# Altium integrated library ST Video Non-VGA Video Controller.IntLib: 7 symbols
Pins are listed as number, name and electrical type; pins without a type are passive.

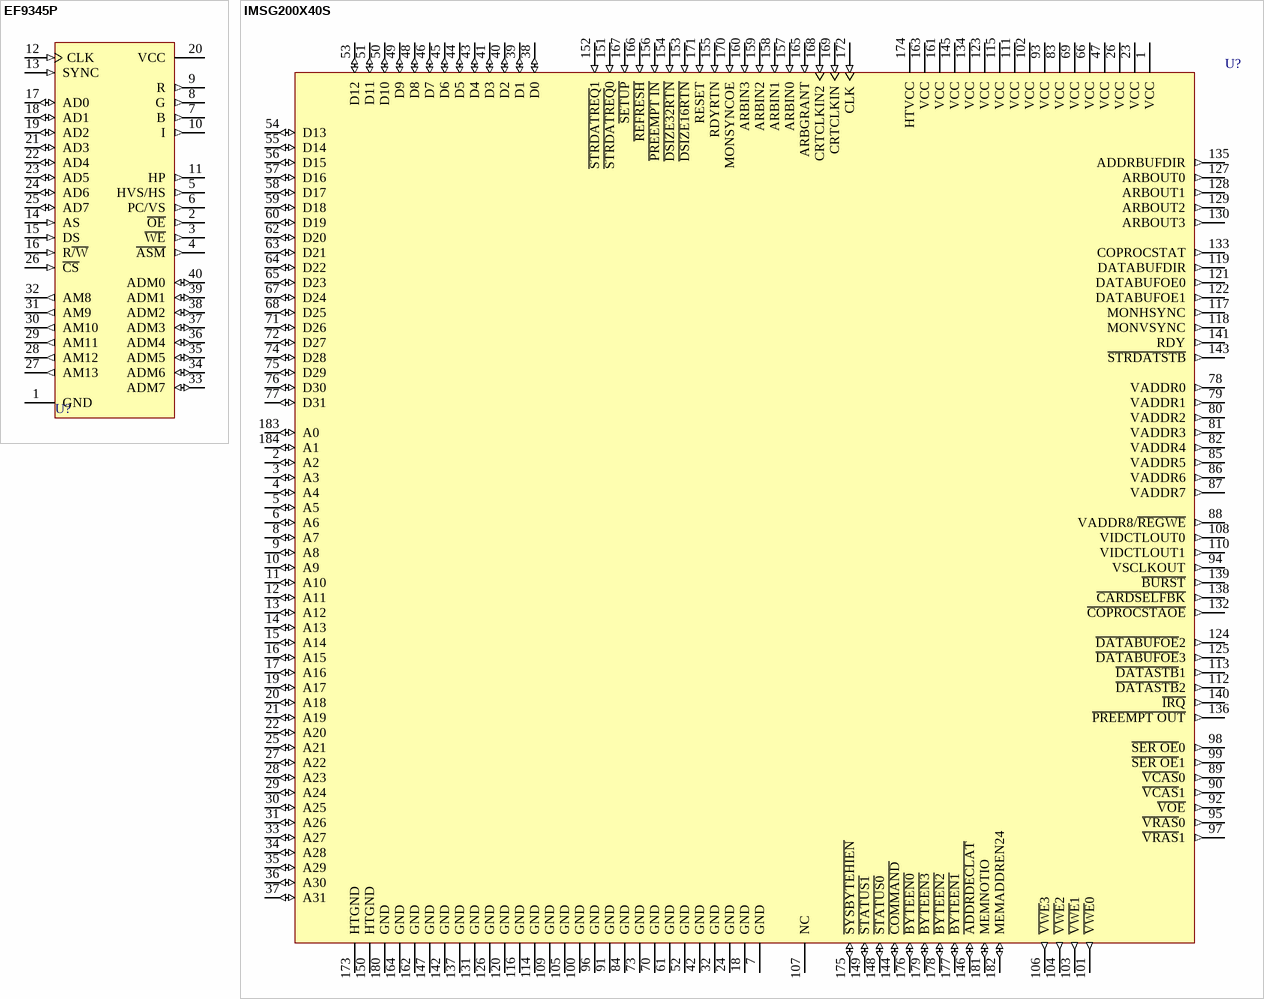
[diagram p0: symbols EF9345P to IMSG200X40S]

## EF9345P
designator U?
HMOS2 Single Chip Semi-Graphic Display Processor; Published: 24-Aug-2001; LatestRevisionDate: 6-Jun-2005; LatestRevisionNote: Stylized 3D Model Added.; DatasheetDocument: Mar-1995; PackageDocument: Jul-1999; PackageReference: PDIP40B; Publisher: Altium Limited; ComponentLink1Description: Manufacturer Link; ComponentLink1URL: http://www.st.com/
footprint PDIP40B (DIP; 40 Leads; Row Spacing 15.24 mm; Pitch 2.54 mm)
3D model PDIP40B (DIP; 40 Leads; Row Spacing 15.24 mm; Pitch 2.54 mm)
pins: 1 GND (power), 2 ~{OE} (out), 3 ~{WE} (out), 4 ~{ASM} (out), 5 HVS/HS (out), 6 PC/VS (out), 7 B (out), 8 G (out), 9 R (out), 10 I (out), 11 HP (out), 12 CLK (in), 13 SYNC (in), 14 AS (in), 15 DS (in), 16 R~{/W} (in), 17 AD0 (io), 18 AD1 (io), 19 AD2 (io), 20 VCC (power), 21 AD3 (io), 22 AD4 (io), 23 AD5 (io), 24 AD6 (io), 25 AD7 (io), 26 ~{CS} (in), 27 AM13 (out), 28 AM12 (out), 29 AM11 (out), 30 AM10 (out), 31 AM9 (out), 32 AM8 (out), 33 ADM7 (io), 34 ADM6 (io), 35 ADM5 (io), 36 ADM4 (io), 37 ADM3 (io), 38 ADM2 (io), 39 ADM1 (io), 40 ADM0 (io)

## IMSG200X40S
designator U?
XGA Display Controller; Published: 24-Aug-2001; LatestRevisionDate: 6-Jun-2005; LatestRevisionNote: Stylized 3D Model Added.; DatasheetDocument: Aug-1992; PackageReference: PQFP184; Publisher: Altium Limited; Code_IPC: QFP32X32-184; ComponentLink1Description: Manufacturer Link; ComponentLink1URL: http://www.st.com/
footprint PQFP184 (QFP, Plastic; 184 Leads; Body 32 x 32 mm; Pitch 0.65 mm)
3D model IMSG200-PQFP184 (QFP, Plastic; 184 Leads; Body 32 x 32 mm; Pitch 0.65 mm)
pins: 1 VCC (power), 2 A2 (io), 3 A3 (io), 4 A4 (io), 5 A5 (io), 6 A6 (io), 7 GND (power), 8 A7 (io), 9 A8 (io), 10 A9 (io), 11 A10 (io), 12 A11 (io), 13 A12 (io), 14 A13 (io), 15 A14 (io), 16 A15 (io), 17 A16 (io), 18 GND (power), 19 A17 (io), 20 A18 (io), 21 A19 (io), 22 A20 (io), 23 VCC (power), 24 GND (power), 25 A21 (io), 26 VCC (power), 27 A22 (io), 28 A23 (io), 29 A24 (io), 30 A25 (io), 31 A26 (io), 32 GND (power), 33 A27 (io), 34 A28 (io), 35 A29 (io), 36 A30 (io), 37 A31 (io), 38 D0 (io), 39 D1 (io), 40 D2 (io), 41 D3 (io), 42 GND (power), 43 D4 (io), 44 D5 (io), 45 D6 (io), 46 D7 (io), 47 VCC (power), 48 D8 (io), 49 D9 (io), 50 D10 (io), 51 D11 (io), 52 GND (power), 53 D12 (io), 54 D13 (io), 55 D14 (io), 56 D15 (io), 57 D16 (io), 58 D17 (io), 59 D18 (io), 60 D19 (io), 61 GND (power), 62 D20 (io), 63 D21 (io), 64 D22 (io), 65 D23 (io), 66 VCC (power), 67 D24 (io), 68 D25 (io), 69 VCC (power), 70 GND (power), 71 D26 (io), 72 D27 (io), 73 GND (power), 74 D28 (io), 75 D29 (io), 76 D30 (io), 77 D31 (io), 78 VADDR0 (out), 79 VADDR1 (out), 80 VADDR2 (out), 81 VADDR3 (out), 82 VADDR4 (out), 83 VCC (power), 84 GND (power), 85 VADDR5 (out), 86 VADDR6 (out), 87 VADDR7 (out), 88 VADDR8/~{REGWE} (out), 89 ~{VCAS}0 (out), 90 ~{VCAS}1 (out), 91 GND (power), 92 ~{VOE} (out), 93 VCC (power), 94 VSCLKOUT (out), 95 ~{VRAS}0 (out), 96 GND (power), 97 ~{VRAS}1 (out), 98 ~{SER OE}0 (out), 99 ~{SER OE}1 (out), 100 GND (power), 101 ~{VWE}0 (out), 102 VCC (power), 103 ~{VWE}1 (out), 104 ~{VWE}2 (out), 105 GND (power), 106 ~{VWE}3 (out), 107 NC, 108 VIDCTLOUT0 (out), 109 GND (power), 110 VIDCTLOUT1 (out), 111 VCC (power), 112 ~{DATASTB}2 (out), 113 ~{DATASTB}1 (out), 114 GND (power), 115 VCC (power), 116 GND (power), 117 MONHSYNC (out), 118 MONVSYNC (out), 119 DATABUFDIR (out), 120 GND (power), 121 DATABUFOE0 (out), 122 DATABUFOE1 (out), 123 VCC (power), 124 ~{DATABUFOE}2 (out), 125 ~{DATABUFOE}3 (out), 126 GND (power), 127 ARBOUT0 (out), 128 ARBOUT1 (out), 129 ARBOUT2 (out), 130 ARBOUT3 (out), 131 GND (power), 132 ~{COPROCSTAOE} (out), 133 COPROCSTAT (out), 134 VCC (power), 135 ADDRBUFDIR (out), 136 ~{PREEMPT OUT} (out), 137 GND (power), 138 ~{CARDSELFBK} (out), 139 ~{BURST} (out), 140 ~{IRQ} (out), 141 RDY (out), 142 GND (power), 143 ~{STRDATSTB} (out), 144 ~{COMMAND} (io), 145 VCC (power), 146 ~{ADDRDECLAT} (io), 147 GND (power), 148 ~{STATUS0} (io), 149 ~{STATUS1} (io), 150 HTGND (power), 151 ~{STRDATREQ}0 (in), 152 ~{STRDATREQ}1 (in), 153 ~{DSIZE16RTN} (in), 154 ~{DSIZE32RTN} (in), 155 RDYRTN (in), 156 ~{PREEMPT IN} (in), 157 ARBIN0 (in), 158 ARBIN1 (in), 159 ARBIN2 (in), 160 ARBIN3 (in), 161 VCC (power), 162 GND (power), 163 VCC (power), 164 GND (power), 165 ARBGRANT (in), 166 ~{REFRESH} (in), 167 ~{SETUP} (in), 168 CRTCLKIN2 (in), 169 CRTCLKIN (in), 170 MONSYNCOE (in), 171 RESET (in), 172 CLK (in), 173 HTGND (power), 174 HTVCC (power), 175 ~{SYSBY}~{TEHIEN} (io), 176 ~{BYTEE}~{N0} (io), 177 ~{BYTEEN1} (io), 178 ~{BYTEEN2} (io), 179 ~{BYTEEN3} (io), 180 GND (power), 181 MEMNOTIO (io), 182 MEMADDREN24 (io), 183 A0 (io), 184 A1 (io)

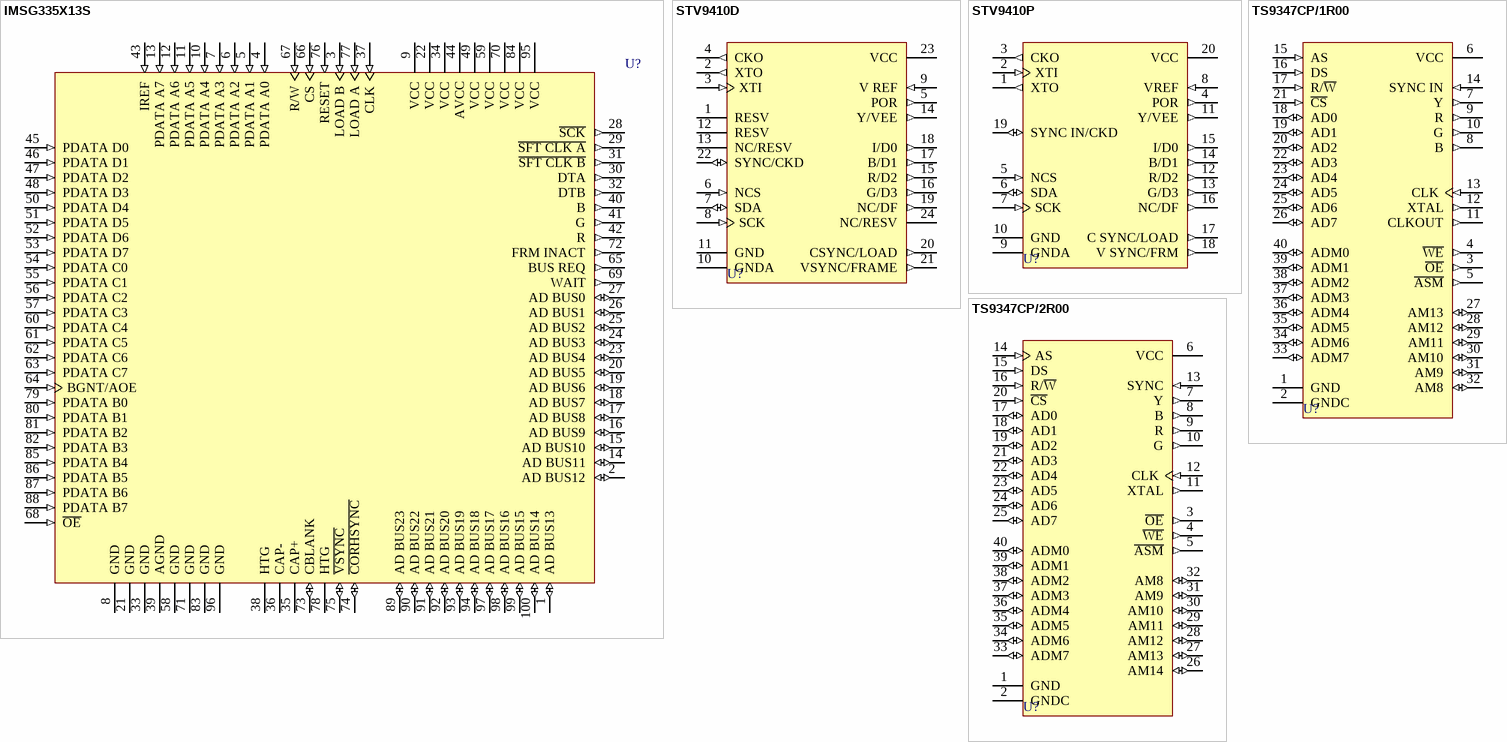
[diagram p1: symbols IMSG335X13S to TS9347CP/2R00]

## IMSG335X13S
designator U?
Colour Video Controller; Published: 24-Aug-2001; LatestRevisionDate: 6-Jun-2005; LatestRevisionNote: Stylized 3D Model Added.; DatasheetDocument: Aug-1992; PackageDocument: Jun-2003; PackageReference: PQFP100; Publisher: Altium Limited; Code_IPC: QFP-14X20-100; ComponentLink1Description: Manufacturer Link; ComponentLink1URL: http://www.st.com/
footprint PQFP100 (QFP, Plastic; 100 Leads; Body 14 x 20 mm; Pitch 0.65 mm)
3D model IMSG335-PQFP100 (QFP, Plastic; 100 Leads; Body 14 x 20 mm; Pitch 0.65 mm)
pins: 1 AD BUS13 (io), 2 AD BUS12 (io), 3 LOAD B (in), 4 PDATA A0 (in), 5 PDATA A1 (in), 6 PDATA A2 (in), 7 PDATA A3 (in), 8 GND (power), 9 VCC (power), 10 PDATA A4 (in), 11 PDATA A5 (in), 12 PDATA A6 (in), 13 PDATA A7 (in), 14 AD BUS11 (io), 15 AD BUS10 (io), 16 AD BUS9 (io), 17 AD BUS8 (io), 18 AD BUS7 (io), 19 AD BUS6 (io), 20 AD BUS5 (io), 21 GND (power), 22 VCC (power), 23 AD BUS4 (io), 24 AD BUS3 (io), 25 AD BUS2 (io), 26 AD BUS1 (io), 27 AD BUS0 (io), 28 ~{SCK} (out), 29 ~{SFT CLK A} (out), 30 DTA (out), 31 ~{SFT CLK B} (out), 32 DTB (out), 33 GND (power), 34 VCC (power), 35 CAP+, 36 CAP-, 37 CLK (in), 38 HTG, 39 AGND (power), 40 B (out), 41 G (out), 42 R (out), 43 IREF (in), 44 AVCC (power), 45 PDATA D0 (in), 46 PDATA D1 (in), 47 PDATA D2 (in), 48 PDATA D3 (in), 49 VCC (power), 50 PDATA D4 (in), 51 PDATA D5 (in), 52 PDATA D6 (in), 53 PDATA D7 (in), 54 PDATA C0 (in), 55 PDATA C1 (in), 56 PDATA C2 (in), 57 PDATA C3 (in), 58 GND (power), 59 VCC (power), 60 PDATA C4 (in), 61 PDATA C5 (in), 62 PDATA C6 (in), 63 PDATA C7 (in), 64 BGNT/AOE (in), 65 BUS REQ (out), 66 CS (in), 67 R/W (in), 68 ~{OE} (in), 69 WAIT (out), 70 VCC (power), 71 GND (power), 72 FRM INACT (out), 73 CBLANK (io), 74 ~{CORHSYNC} (io), 75 ~{VSYNC} (io), 76 RESET (in), 77 LOAD A (in), 78 HTG, 79 PDATA B0 (in), 80 PDATA B1 (in), 81 PDATA B2 (in), 82 PDATA B3 (in), 83 GND (power), 84 VCC (power), 85 PDATA B4 (in), 86 PDATA B5 (in), 87 PDATA B6 (in), 88 PDATA B7 (in), 89 AD BUS23 (io), 90 AD BUS22 (io), 91 AD BUS21 (io), 92 AD BUS20 (io), 93 AD BUS19 (io), 94 AD BUS18 (io), 95 VCC (power), 96 GND (power), 97 AD BUS17 (io), 98 AD BUS16 (io), 99 AD BUS15 (io), 100 AD BUS14 (io)

## STV9410D
designator U?
CRT and LCD Semi-Graphic Display Proceesor; Note: The respective pin names for both CRT mode and LCD mode are shown in order separated by a forward slash (/).; Published: 24-Aug-2001; LatestRevisionDate: 6-Jun-2005; LatestRevisionNote: Stylized 3D Model Added.; DatasheetDocument: Apr-1996; PackageDocument: Oct-2001; PackageReference: SO24; Publisher: Altium Limited; Code_IPC: SO24W; ComponentLink1Description: Manufacturer Link; ComponentLink1URL: http://www.st.com/
footprint SO24 (Small Outline, Plastic; 24 Leads; Body Width 7.5 mm; Pitch 1.27 mm)
3D model SO24 (Small Outline, Plastic; 24 Leads; Body Width 7.5 mm; Pitch 1.27 mm)
pins: 1 RESV, 2 XTO (out), 3 XTI (in), 4 CKO (out), 5 POR (out), 6 NCS (in), 7 SDA (io), 8 SCK (in), 9 V REF (in), 10 GNDA (power), 11 GND (power), 12 RESV, 13 NC/RESV, 14 Y/VEE (out), 15 R/D2 (out), 16 G/D3 (out), 17 B/D1 (out), 18 I/D0 (out), 19 NC/DF (out), 20 CSYNC/LOAD (out), 21 VSYNC/FRAME (out), 22 SYNC/CKD (io), 23 VCC (power), 24 NC/RESV

## STV9410P
designator U?
CRT and LCD Semi-Graphic Display Proceesor; Note: The respective pin names for both CRT mode and LCD mode are shown in order separated by a forward slash (/).; Published: 24-Aug-2001; LatestRevisionDate: 6-Jun-2005; LatestRevisionNote: Stylized 3D Model Added.; DatasheetDocument: Apr-1996; PackageDocument: Jun-1998; PackageReference: DIP20; Publisher: Altium Limited; Code_JEDEC: MS-015-AE; ComponentLink1Description: Manufacturer Link; ComponentLink1URL: http://www.st.com/
footprint DIP20 (DIP; 20 Leads; Row Spacing 7.62 mm; Pitch 2.54 mm)
3D model DIP20 (DIP; 20 Leads; Row Spacing 7.62 mm; Pitch 2.54 mm)
pins: 1 XTO (out), 2 XTI (in), 3 CKO (out), 4 POR (out), 5 NCS (in), 6 SDA (io), 7 SCK (in), 8 VREF (in), 9 GNDA (power), 10 GND (power), 11 Y/VEE (out), 12 R/D2 (out), 13 G/D3 (out), 14 B/D1 (out), 15 I/D0 (out), 16 NC/DF (out), 17 C SYNC/LOAD (out), 18 V SYNC/FRM (out), 19 SYNC IN/CKD (io), 20 VCC (power)

## TS9347CP/1R00
designator U?
Single Chip Semi-Graphic Display Processor; Published: 24-Aug-2001; LatestRevisionDate: 6-Jun-2005; LatestRevisionNote: Stylized 3D Model Added.; DatasheetDocument: Sep-1993; PackageDocument: Jul-1999; PackageReference: PDIP40B; Publisher: Altium Limited; ComponentLink1Description: Manufacturer Link; ComponentLink1URL: http://www.st.com/
footprint PDIP40B (DIP; 40 Leads; Row Spacing 15.24 mm; Pitch 2.54 mm)
3D model PDIP40B (DIP; 40 Leads; Row Spacing 15.24 mm; Pitch 2.54 mm)
pins: 1 GND (power), 2 GNDC (power), 3 ~{OE} (out), 4 ~{WE} (out), 5 ~{ASM} (out), 6 VCC (power), 7 Y (out), 8 B (out), 9 R (out), 10 G (out), 11 CLKOUT (out), 12 XTAL (out), 13 CLK (in), 14 SYNC IN (in), 15 AS (in), 16 DS (in), 17 R/~{W} (in), 18 AD0 (io), 19 AD1 (io), 20 AD2 (io), 21 ~{CS} (in), 22 AD3 (io), 23 AD4 (io), 24 AD5 (io), 25 AD6 (io), 26 AD7 (io), 27 AM13 (io), 28 AM12 (io), 29 AM11 (io), 30 AM10 (io), 31 AM9 (io), 32 AM8 (io), 33 ADM7 (io), 34 ADM6 (io), 35 ADM5 (io), 36 ADM4 (io), 37 ADM3 (io), 38 ADM2 (io), 39 ADM1 (io), 40 ADM0 (io)

## TS9347CP/2R00
designator U?
Single Chip Semi-Graphic Display Processor; Published: 24-Aug-2001; LatestRevisionDate: 6-Jun-2005; LatestRevisionNote: Stylized 3D Model Added.; DatasheetDocument: Sep-1993; PackageDocument: Jul-1999; PackageReference: PDIP40B; Publisher: Altium Limited; ComponentLink1Description: Manufacturer Link; ComponentLink1URL: http://www.st.com/
footprint PDIP40B (DIP; 40 Leads; Row Spacing 15.24 mm; Pitch 2.54 mm)
3D model PDIP40B (DIP; 40 Leads; Row Spacing 15.24 mm; Pitch 2.54 mm)
pins: 1 GND (power), 2 GNDC (power), 3 ~{OE} (out), 4 ~{WE} (out), 5 ~{ASM} (out), 6 VCC (power), 7 Y (out), 8 B (out), 9 R (out), 10 G (out), 11 XTAL (out), 12 CLK (in), 13 SYNC (in), 14 AS (in), 15 DS (in), 16 R/~{W} (in), 17 AD0 (io), 18 AD1 (io), 19 AD2 (io), 20 ~{CS} (in), 21 AD3 (io), 22 AD4 (io), 23 AD5 (io), 24 AD6 (io), 25 AD7 (io), 26 AM14 (io), 27 AM13 (io), 28 AM12 (io), 29 AM11 (io), 30 AM10 (io), 31 AM9 (io), 32 AM8 (io), 33 ADM7 (io), 34 ADM6 (io), 35 ADM5 (io), 36 ADM4 (io), 37 ADM3 (io), 38 ADM2 (io), 39 ADM1 (io), 40 ADM0 (io)